# Altium schematic symbol library Merge_ESC_Board_Library.SchLib: 16 symbols
Pins are listed as number, name and electrical type; pins without a type are passive.

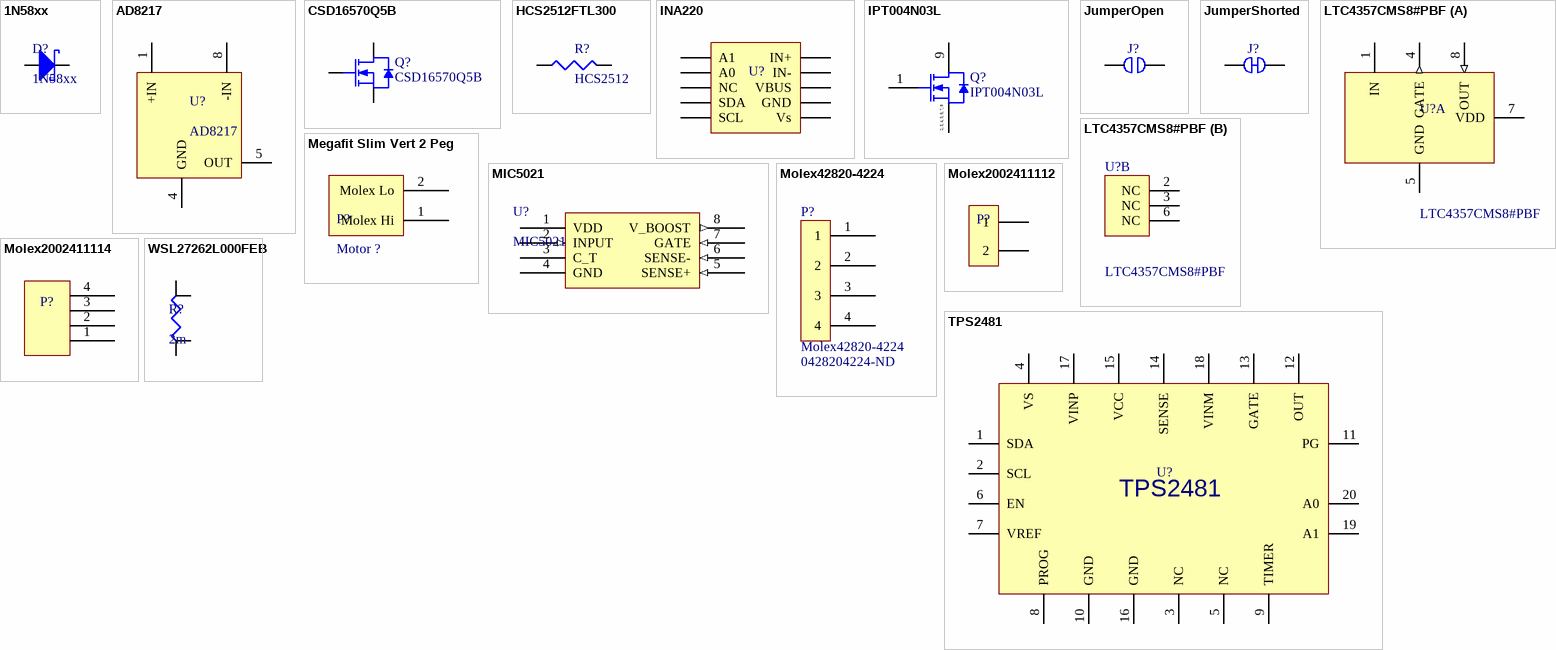
[diagram p0: symbols 1N58xx to WSL27262L000FEB]

## 1N58xx
designator D?
1A Schottky Barrier Rectifier Diode; Datasheet: http://www.kesenes.com/pdf/1n5817-1n5819.pdf
footprint 1N58xx (1A Schottky Barrier Rectifier Diode)
pins: A Anode, K Cathode

## AD8217
designator U?
High Resolution, Zero-Drift  Current Shunt Monitor; Datasheet: https://www.analog.com/media/en/technical-documentation/data-sheets/AD8217.pdf
footprint AD8217 (High Resolution, Zero-Drift Current Shunt Monitor)
pins: 1 +IN, 4 GND, 5 OUT, 8 -IN

## CSD16570Q5B
designator Q?
MOSFET N-CH 25V 100A 8VSON; Manufacturer: Texas Instruments; Packing: Reel; QG: 250 nC; RDS (on) (max): 0.59 mOhm; VGS(th) (max): 1.9 V; VGS (max): 20 V; Supplier 1: Digikey; Supplier Part Number 1: 296-47753-1-ND; ID (max): 100 A; VDS (max): 25 V; Mounting Technology: Surface Mount; PartNumber: CSD16570Q5B; ComponentLink1Description: Manufacturer URL; ComponentLink1URL: http://www.ti.com/; ComponentLink2Description: Datasheet; ComponentLink2URL: http://www.ti.com/lit/ds/symlink/csd16570q5b.pdf; Digikey Link: https://www.digikey.com/product-detail/en/texas-instruments/CSD16570Q5B/296-47753-1-ND/8133102
footprint CSD16570Q5B (MOSFET N-CH 25V 100A 8VSON)
pins: D Drain, G Gate, S Source

## HCS2512FTL300
designator R?, comment HCS2512
300 µOhms ±1% 3W Chip Resistor 2512 (6432 Metric) Automotive AEC-Q200, Current Sense, Moisture Resistant Metal Foil; Digikey: https://www.digikey.com/product-detail/en/stackpole-electronics-inc/HCS2512FTL300/HCS2512FTL300CT-ND/4517526; Datasheet: https://www.seielect.com/catalog/sei-hcs.pdf
footprint HSC2512xxxL300 (Chip Resistor, 2-Leads, Body 6.50x3.25mm, IPC Medium Density)
pins: 1, 2

## INA220
designator U?  (value not drawn)
Current Monitor Regulator High/Low-Side 10mA 10-VSSOP; Digikey Link: https://www.digikey.com/product-detail/en/texas-instruments/INA220AIDGSR/296-44353-1-ND/6110626; Datasheet Link: http://www.ti.com/lit/ds/symlink/ina220.pdf
footprint SOP127P600-8N
pins: 1 A1, 2 A0, 3 NC, 4 SDA, 5 SCL, 6 Vs, 7 GND, 8 VBUS, 9 IN-, 10 IN+

## IPT004N03L
designator Q?
N-Channel OptiMOS(TM) Power-MOSFET, 30 V VDS, 300 A ID, -55 to 175 degC, PG-HSOF-8, Reel, Green; Manufacturer: Infineon; Green: TRUE; ID (max): 300 A; IDpuls (max): 1,200 A; Polarity: FALSE; Ptot (max): 300 W; QG: 122 nC; RDS (on) (max): 0.4 mOhm; RthJA (max): 40 K/W; RthJC (max): 0.5 K/W; VDS (max): 30 V; VGS(th) (max): 2.2 V; VGS(th) (min): 0.7 V; DatasheetVersion: Rev. 1.2; PackageVersion: Rev. 04; PackageReference: PG-HSOF-8-1; PackageDescription: 8-Pin Plastic (Green) Heatlink Small Outline Flat Leads Package, 10.375 x 9.9 mm Body, 0.8 mm Pitch; Supplier 1: Mouser; Supplier Part Number 1: N/A; Halogen-free: TRUE; Packing: Reel; Technology: OptiMOS(TM); Mounting Technology: Surface Mount; PartNumber: IPT004N03L; ComponentLink1Description: Manufacturer URL; ComponentLink1URL: http://www.infineon.com/; ComponentLink2Description: Datasheet; ComponentLink2URL: http://www.infineon.com/dgdl/IPT004N03L_rev1.2.pdf?folderId=db3a304313b8b5a60113cee8763b02d7&fileId=db3a30433e9d5d11013e9e0f382600c2; ComponentLink3Description: Package Specification; ComponentLink3URL: http://www.infineon.com/cms/packages/SMD_-_Surface_Mounted_Devices/P-PG-HSOF/P-PG-HSOF-08-1.html?__locale=en
footprint INF-PG-HSOF-8-1_V
pins: 1 GATE, 2 S, 3 S, 4 S, 5 S, 6 S, 7 S, 8 S, 9 D
text: 2, 3, 4, 5, 6, 7, 8

## JumperOpen
designator J?  (net tie, no BOM)
Jumper (Default Open)
footprint JUMPER_OPEN (Jumper (Default Open))
pins: 1, 2

## JumperShorted
designator J?  (net tie, no BOM)
Jumper (Default Shorted)
footprint JUMPER_SHORT (Jumper (Default Short))
pins: 1, 2

## LTC4357CMS8#PBF
designator U?
Positive High Voltage Ideal Diode Controller, 9 to 80 V Vin, 8-pin SOP (MS8-8), 0 to 70 degC, Pb-Free; Manufacturer: Linear Technology; Ideal Diode: Single, External, N-Channel; DatasheetVersion: Rev. D; PackageVersion: Rev. G, 03/2012; PackageReference: MS8-8; PackageDescription: 8-Pin Plastic MSOP, Body 3 x 3 mm, Pitch 0.65 mm; Supplier 1: Digi-Key; Supplier Part Number 1: LTC4357CMS8#PBF-ND; Supplier 2: Farnell; Supplier Part Number 2: 1432779; Supplier 3: Newark; Supplier Part Number 3: 56M9468; RoHS: TRUE; Mounting Technology: Surface Mount; PartNumber: LTC4357CMS8#PBF; ComponentLink1Description: Manufacturer URL; ComponentLink1URL: http://www.linear.com/; ComponentLink2Description: Datasheet; ComponentLink2URL: http://cds.linear.com/docs/en/datasheet/4357fd.pdf; ComponentLink3Description: Package Specification; ComponentLink3URL: http://cds.linear.com/docs/en/packaging/05081660_G_MS8.pdf
footprint LT-MS8-8_N (Positive High Voltage Ideal Diode Controller, 9 to 80 V Vin, 8-pin SOP (MS8-8), 0 to 70 degC, Pb-Free)
part A pins: 1 IN (power) "Input Voltage and GATE Fast Pull-Down Return. IN is the anode of the ideal diode and connects to the source of the N-channel MOSFET. The voltage sensed at this pin is used to control the source-drain voltage across the (See Datasheet)", 4 GATE (out) "Gate Drive Output. The GATE pin pulls high, enhancing the N-channel MOSFET when the load current creates more than 25mV of voltage drop across the MOSFET. When the load current is small, the gate is actively driven to (See Datasheet)", 5 GND (power) "Device Ground.", 7 VDD (power) "Positive Supply Input. The LTC4357 is powered from the VDD pin. Connect this pin to OUT either directly or through an RC hold-up circuit.", 8 OUT (in) "Drain Voltage Sense. OUT is the cathode of the ideal diode and the common output when multiple LTC4357s are configured as an ideal diode-OR. It connects to the drain of the N-channel MOSFET. The voltage sensed at this pin is (See Datasheet)"
part B pins: 2 NC "No Connection. Not internally connected.", 3 NC "No Connection. Not internally connected.", 6 NC "No Connection. Not internally connected."

## Megafit Slim Vert 2 Peg
designator P?, comment Motor ?
mfgr_part_num: 76829-0102
footprint 76829-0102 (molex 2 circuit connector megafit slim)
pins: 1 Molex Hi, 2 Molex Lo

## MIC5021
designator U?
Digikey Link: https://www.digikey.com/product-detail/en/microchip-technology/MIC5021YM-TR/576-1239-1-ND/771878; Datasheet Link: http://ww1.microchip.com/downloads/en/DeviceDoc/20005677A.pdf
footprint MIC5021 (SOIC, 8-Leads, Body 4.89x3.90mm, Pitch 1.27mm, IPC Medium Density)
pins: 1 VDD (power), 2 INPUT (in), 3 C_T, 4 GND (power), 5 SENSE+ (in), 6 SENSE- (in), 7 GATE (in), 8 V_BOOST (out)

## Molex42820-4224
designator P?  Supplier Part Number 1: 0428204224-ND
Supplier 1: Digi-Key; ComponentLink1Description: DataSheet; ComponentLink1URL: https://www.molex.com/pdm_docs/sd/428204224_sd.pdf
footprint Molex42820-4224
pins: 1 (power), 2 (power), 3 (power), 4 (power)

## Molex2002411112
designator P?  (value not drawn)
footprint Molex2002411112
pins: 1, 2

## Molex2002411114
designator P?
footprint Molex2002411114
pins: 1 (power), 2 (power), 3 (power), 4 (power)

## TPS2481
designator U?  (value not drawn)
Positive voltage, intelligent protection device/hotswap controller and I2C current monitor; Digikey_Link: https://www.digikey.com/product-detail/en/texas-instruments/TPS2481PWR/296-27643-1-ND/2345432; Datasheet_Link: http://www.ti.com/lit/ds/symlink/tps2481.pdf
footprint TPS2481
pins: 1 SDA, 2 SCL, 3 NC, 4 VS, 5 NC, 6 EN, 7 VREF, 8 PROG, 9 TIMER, 10 GND, 11 PG, 12 OUT, 13 GATE, 14 SENSE, 15 VCC, 16 GND, 17 VINP, 18 VINM, 19 A1, 20 A0

## WSL27262L000FEB
designator R?, comment 2m
2 mOhms ±1% 3W Chip Resistor Nonstandard Anti-Sulfur, Automotive AEC-Q200, Current Sense, Moisture Resistant, Pulse Withstanding Metal Element; Digikey Link: https://www.digikey.com/product-detail/en/vishay-dale/WSL27262L000FEB/WSLQ-.002CT-ND/2695218; Datasheet Link: http://www.vishay.com/docs/30131/wsl2726.pdf
footprint WSL27262L000FEB (2 mOhms ±1% 3W Chip Resistor Nonstandard Anti-Sulfur, Automotive AEC-Q200, Current Sense, Moisture Resistant, Pulse Withstanding Metal Element)
pins: 1, 2, 3, 4